# EAGLE library part MAX86141ENP+T (library MAX86141)
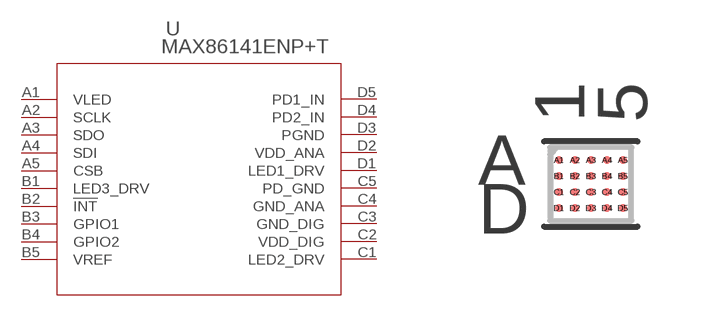
[diagram p0: symbol with the pads of 21-100134_N201A2-1_MXM; footprint 21-100134_N201A2-1_MXM]

Designator prefix U

## MAX86141ENP+T (BUILT_BY: EMA_UL_Team; COPYRIGHT: Copyright (C) 2018 Accelerated Designs. All rights reserved; MANUFACTURER_PART_NUMBER: MAX86141ENP+T; REVISION: 1; SOURCELIBRARY: Maxim_2018-11-30; VENDOR: Maxim Integrated Products)  [21-100134_N201A2-1_MXM]
A1  VLED  pas
A2  SCLK  pas
A3  SDO  pas
A4  SDI  pas
A5  CSB  pas
B1  LED3_DRV
B2  !INT  pas
B3  GPIO1
B4  GPIO2
B5  VREF  pwr
C1  LED2_DRV
C2  VDD_DIG  pwr
C3  GND_DIG  pas
C4  GND_ANA  pas
C5  PD_GND  pas
D1  LED1_DRV
D2  VDD_ANA  pwr
D3  PGND  pas
D4  PD2_IN
D5  PD1_IN

## Footprint 21-100134_N201A2-1_MXM (pad centres in mm)
smd 0.203 x 0.203: A1 -0.8,0.6; A2 -0.4,0.6; A3 0,0.6; A4 0.4,0.6; A5 0.8,0.6; B1 -0.8,0.2; B2 -0.4,0.2; B3 0,0.2; B4 0.4,0.2; B5 0.8,0.2; C1 -0.8,-0.2; C2 -0.4,-0.2; C3 0,-0.2; C4 0.4,-0.2; C5 0.8,-0.2; D1 -0.8,-0.6; D2 -0.4,-0.6; D3 0,-0.6; D4 0.4,-0.6; D5 0.8,-0.6